# Altium footprint library Opto.PcbLib: 6 footprints
Each footprint in its own frame and in the unit in brackets; x right, y up, seen from the top. Pads: shape width x height; smd on the part's side, far side on the other; paste and mask are expansions set on the pad; w line width, h text height; cw(c..) or ccw(c..) is an arc to the next point about the centre after c.
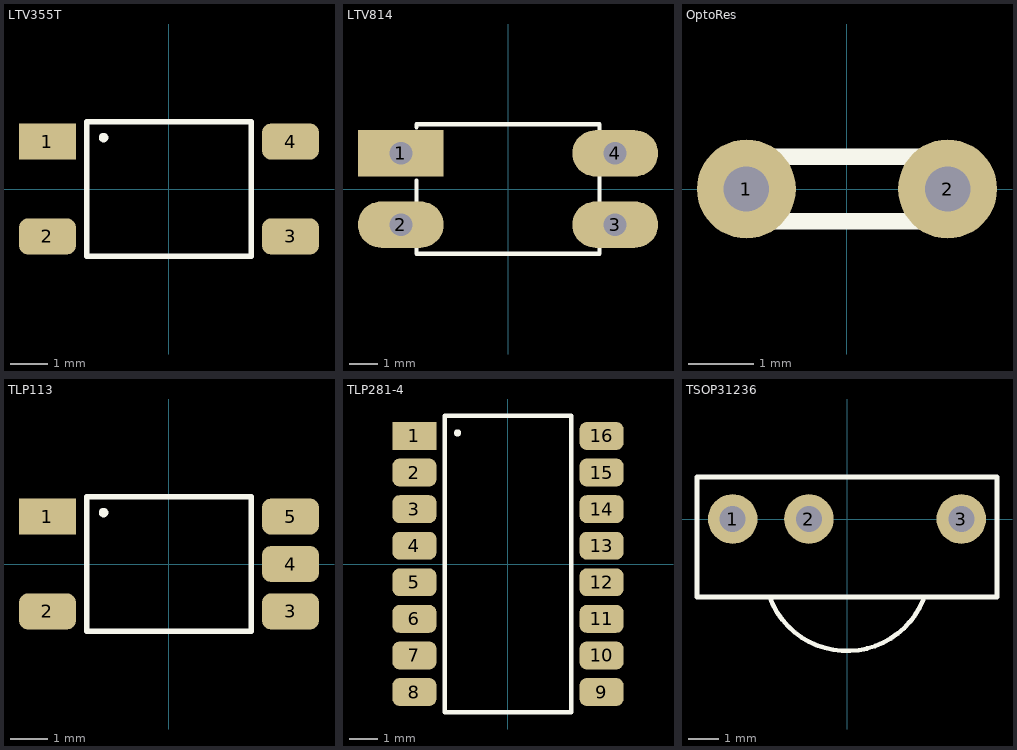
[diagram p0: the footprints below, top view; thin cyan lines are the x and y axes]

## LTV355T [mil]
height 78.74
pads (4):
  rect 60x38 smd: 1(-127.95,50)
  rrect50% 60x38 smd: 2(-127.95,-50) 3(127.95,-50) 4(127.95,50)
Top Overlay:
  circle w6: c-68.9,54.13 r1.97
  lines w6: -86.61,-70.87 -86.61,70.87 86.61,70.87 86.61,-70.87 -86.61,-70.87

## LTV814 [mil]
height 196.85
pads (4):
  rect 120x65 hole 32: 1(-150,50)
  oval 120x65 hole 32: 2(-150,-50) 3(150,-50) 4(150,50)
Top Overlay:
  circle w6: c-105.31,71.85 r2.95
  lines w6: -127.95,-81.69 -127.95,-90.55 127.95,-90.55 127.95,-81.69 ; -127.95,-16.73 -127.95,11.81 ; -127.95,86.61 -127.95,90.55 127.95,90.55 127.95,81.69 ; 127.95,-16.73 127.95,16.73

## OptoRes [mil]
pads (2):
  round 60 hole 27.56: 1(-61.02,0) 2(61.02,0)
Top Overlay:
  lines w10: -61.02,-19.68 57.09,-19.68 57.09,19.68 -61.02,19.68 -61.02,-19.68

## TLP113 [mil]
pads (5):
  rect 60x38 smd: 1(-127.95,50)
  rrect50% 60x38 smd: 2(-127.95,-50) 3(127.95,-50) 4(127.95,0) 5(127.95,50)
Top Overlay:
  circle w6: c-68.9,54.13 r1.97
  lines w6: -86.61,-70.87 -86.61,70.87 86.61,70.87 86.61,-70.87 -86.61,-70.87

## TLP281-4 [mil]
height 86.61
pads (16):
  rect 60x38 smd: 1(-127.95,175)
  rrect50% 60x38 smd: 2(-127.95,125) 3(-127.95,75) 4(-127.95,25) 5(-127.95,-25) 6(-127.95,-75) 7(-127.95,-125) 8(-127.95,-175) 9(127.95,-175) 10(127.95,-125) 11(127.95,-75) 12(127.95,-25) 13(127.95,25) 14(127.95,75) 15(127.95,125) 16(127.95,175)
Top Overlay:
  circle w6: c-68.9,179.13 r1.97
  lines w6: -86.61,-202.76 86.61,-202.76 86.61,202.76 -86.61,202.76 -86.61,-202.76

## TSOP31236 [mil]
pads (3):
  round 65 hole 34: 1(-150,0) 2(-50,0) 3(150,0)
Top Overlay:
  lines w6: -101.21,-103.42 ccw(c0,-64.96) 100.07,-106.29 ; -196.85,-102.36 196.85,-102.36 196.85,55.12 -196.85,55.12 -196.85,-102.36
3D body: height 492.13, standoff -78.74, extent -196.85,-149.61 196.85,78.74